# Altium footprint library HARWIN THD.PcbLib: 28 footprints (part 1 of 2)
Each footprint in its own frame and in the unit in brackets; x right, y up, seen from the top. Pads: shape width x height; smd on the part's side, far side on the other; paste and mask are expansions set on the pad; w line width, h text height; cw(c..) or ccw(c..) is an arc to the next point about the centre after c.
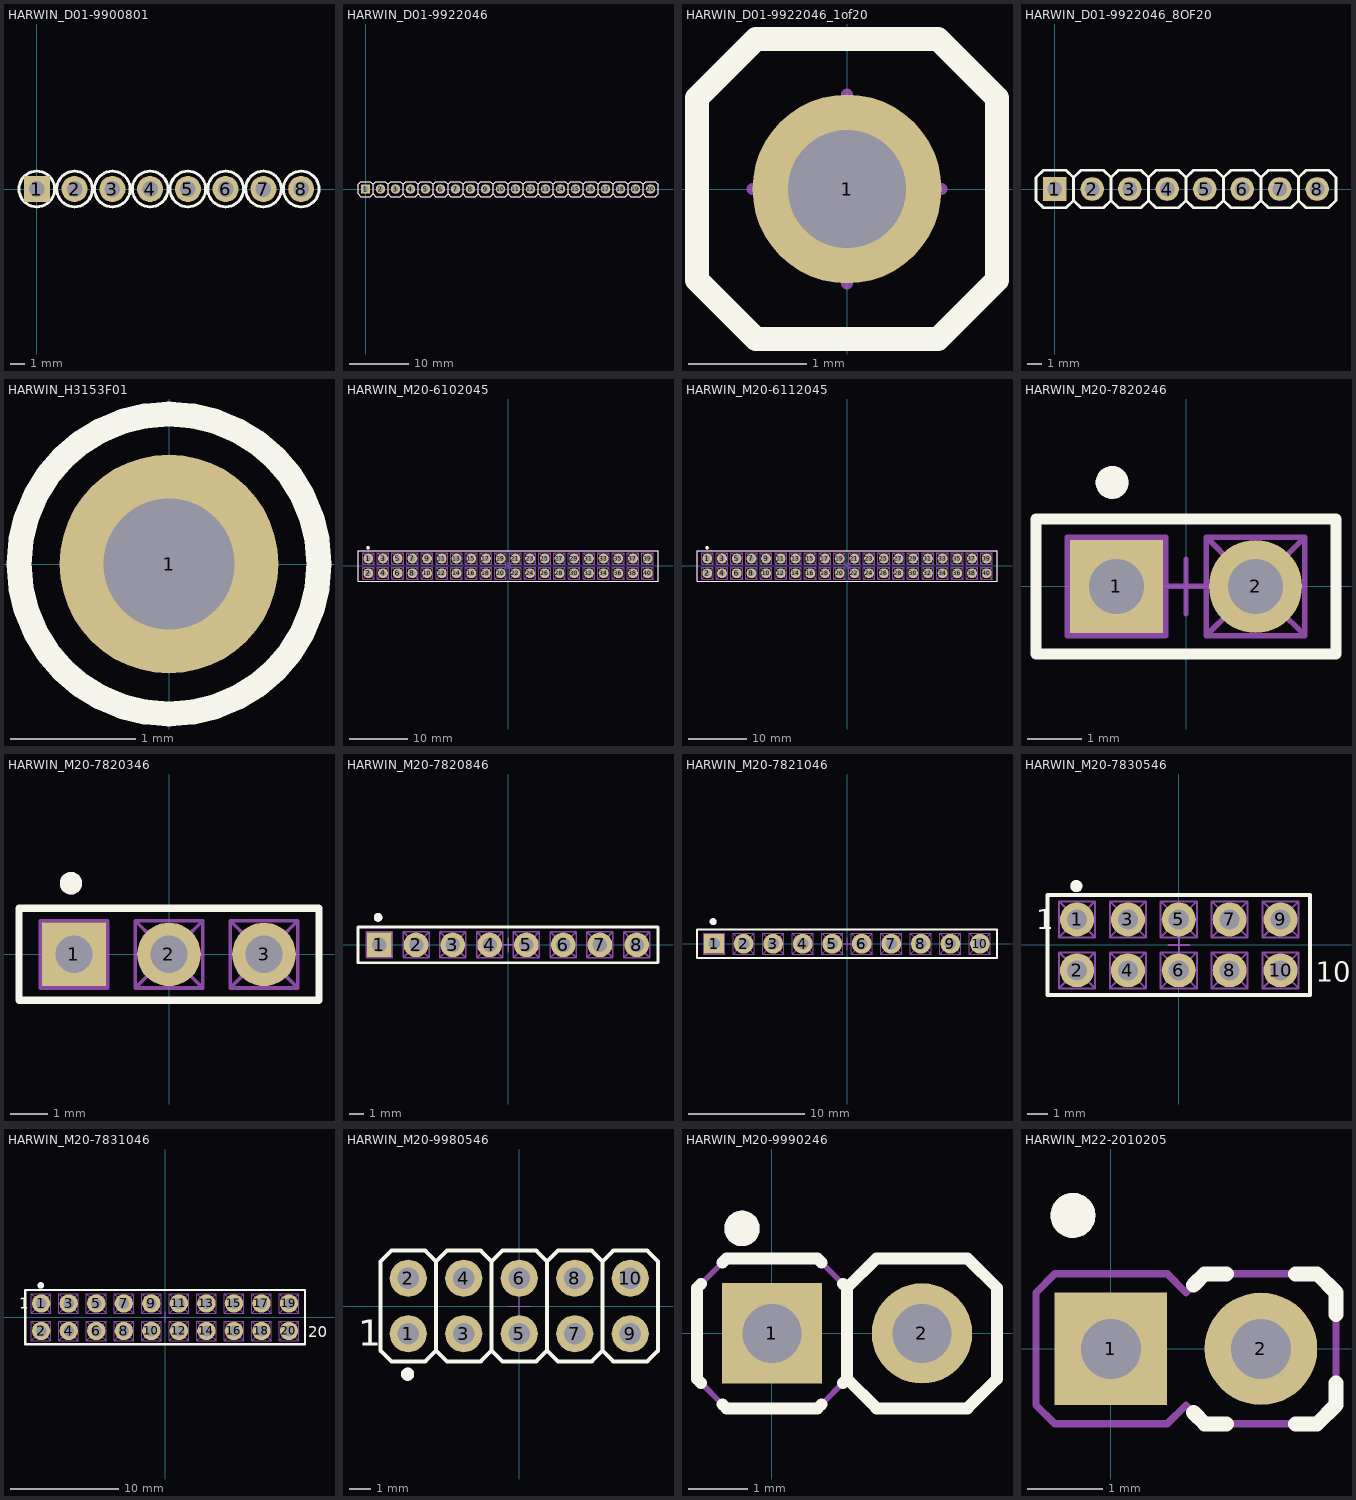
[diagram p0: the footprints below, top view; thin cyan lines are the x and y axes]

## HARWIN_D01-9900801 [mm] "Sub-miniature PC Board Socket for Ø0.5mm Pin"
height 0.43
pads (8):
  rect 1.75x1.75 hole 1.05: 1(0,0)
  round 1.75 hole 1.05: 2(2.54,0) 3(5.08,0) 4(7.62,0) 5(10.16,0) 6(12.7,0) 7(15.24,0) 8(17.78,0)
Top Overlay:
  circle w0.2: c17.78,0 r1.2
  circle w0.2: c15.24,0 r1.2
  circle w0.2: c7.62,0 r1.2
  circle w0.2: c12.7,0 r1.2
  circle w0.2: c10.16,0 r1.2
  circle w0.2: c5.08,0 r1.2
  circle w0.2: c2.54,0 r1.2
  circle w0.2: c0,0 r1.2
Mechanical 8:
  lines w0.1: -0.8,0 0,0 ; 0,-0.8 0,0 ; 0,0.8 0,0 ; 0.8,0 0,0 ; 1.74,0 2.54,0 ; 2.54,-0.8 2.54,0 ; 2.54,0.8 2.54,0 ; 3.34,0 2.54,0 ; 4.28,0 5.08,0 ; 5.08,-0.8 5.08,0 ; 5.08,0.8 5.08,0 ; 5.88,0 5.08,0 ; 6.82,0 7.62,0 ; 7.62,-0.8 7.62,0 ; 7.62,0.8 7.62,0 ; 8.42,0 7.62,0 ; 9.36,0 10.16,0 ; 10.16,-0.8 10.16,0 ; 10.16,0.8 10.16,0 ; 10.96,0 10.16,0 ; 11.9,0 12.7,0 ; 12.7,-0.8 12.7,0 ; 12.7,0.8 12.7,0 ; 13.5,0 12.7,0 ; 14.44,0 15.24,0 ; 15.24,-0.8 15.24,0 ; 15.24,0.8 15.24,0 ; 16.04,0 15.24,0 ; 16.98,0 17.78,0 ; 17.78,-0.8 17.78,0 ; 17.78,0.8 17.78,0 ; 18.58,0 17.78,0
  text "Spec Hole Tolerance" at 1.9,1.1 h1
Mechanical 14:
  circle w0.1: c17.78,0 r0.725
  circle w0.1: c15.24,0 r0.725
  circle w0.1: c7.62,0 r0.725
  circle w0.1: c12.7,0 r0.725
  circle w0.1: c10.16,0 r0.725
  circle w0.1: c5.08,0 r0.725
  circle w0.1: c2.54,0 r0.725
  circle w0.1: c0,0 r0.725
3D body "HARWIN_D01-9900801.stp": height 0.43, standoff -3.18, extent -0.725,-0.725 18.505,0.725

## HARWIN_D01-9922046 [mm] "20 Contact 2.54mm Pitch Single-In-Line Header Strip - Top Pin Ø0.46mm - Bottom Pin Ø0.69mm"
height 7.43
pads (20):
  rect 1.6x1.6 hole 1: 1(0,0)
  round 1.6 hole 1: 2(2.54,0) 3(5.08,0) 4(7.62,0) 5(10.16,0) 6(12.7,0) 7(15.24,0) 8(17.78,0) 9(20.32,0) 10(22.86,0) 11(25.4,0) 12(27.94,0) 13(30.48,0) 14(33.02,0) 15(35.56,0) 16(38.1,0) 17(40.64,0) 18(43.18,0) 19(45.72,0) 20(48.26,0)
Top Overlay:
  drawing of 160 lines, arcs and shapes, not listed
Mechanical 8:
  lines w0.1: -0.8,0 0,0 ; 0,-0.8 0,0 ; 0,0.8 0,0 ; 0.8,0 0,0 ; 1.74,0 2.54,0 ; 2.54,-0.8 2.54,0 ; 2.54,0.8 2.54,0 ; 3.34,0 2.54,0 ; 4.28,0 5.08,0 ; 5.08,-0.8 5.08,0 ; 5.08,0.8 5.08,0 ; 5.88,0 5.08,0 ; 6.82,0 7.62,0 ; 7.62,-0.8 7.62,0 ; 7.62,0.8 7.62,0 ; 8.42,0 7.62,0 ; 9.36,0 10.16,0 ; 10.16,-0.8 10.16,0 ; 10.16,0.8 10.16,0 ; 10.96,0 10.16,0 ; 11.9,0 12.7,0 ; 12.7,-0.8 12.7,0 ; 12.7,0.8 12.7,0 ; 13.5,0 12.7,0 ; 14.44,0 15.24,0 ; 15.24,-0.8 15.24,0 ; 15.24,0.8 15.24,0 ; 16.04,0 15.24,0 ; 16.98,0 17.78,0 ; 17.78,-0.8 17.78,0 ; 17.78,0.8 17.78,0 ; 18.58,0 17.78,0 ; 19.52,0 20.32,0 ; 20.32,-0.8 20.32,0 ; 20.32,0.8 20.32,0 ; 21.12,0 20.32,0 ; 22.06,0 22.86,0 ; 22.86,-0.8 22.86,0 ; 22.86,0.8 22.86,0 ; 23.66,0 22.86,0 ; 24.6,0 25.4,0 ; 25.4,-0.8 25.4,0 ; 25.4,0.8 25.4,0 ; 26.2,0 25.4,0 ; 27.14,0 27.94,0 ; 27.94,-0.8 27.94,0 ; 27.94,0.8 27.94,0 ; 28.74,0 27.94,0 ; 29.68,0 30.48,0 ; 30.48,-0.8 30.48,0 ; 30.48,0.8 30.48,0 ; 31.28,0 30.48,0 ; 32.22,0 33.02,0 ; 33.02,-0.8 33.02,0 ; 33.02,0.8 33.02,0 ; 33.82,0 33.02,0 ; 34.76,0 35.56,0 ; 35.56,-0.8 35.56,0 ; 35.56,0.8 35.56,0 ; 36.36,0 35.56,0 ; 37.3,0 38.1,0 ; 38.1,-0.8 38.1,0 ; 38.1,0.8 38.1,0 ; 38.9,0 38.1,0 ; 39.84,0 40.64,0 ; 40.64,-0.8 40.64,0 ; 40.64,0.8 40.64,0 ; 41.44,0 40.64,0 ; 42.38,0 43.18,0 ; 43.18,-0.8 43.18,0 ; 43.18,0.8 43.18,0 ; 43.98,0 43.18,0 ; 44.92,0 45.72,0 ; 45.72,-0.8 45.72,0 ; 45.72,0.8 45.72,0 ; 46.52,0 45.72,0 ; 47.46,0 48.26,0 ; 48.26,-0.8 48.26,0 ; 48.26,0.8 48.26,0 ; 49.06,0 48.26,0
Mechanical 14:
  drawing of 160 lines, arcs and shapes, not listed
3D body "HARWIN_D01-9922046.stp": height 7.43, standoff -4.3, extent -1.27,-1.27 49.53,1.27

## HARWIN_D01-9922046_1of20 [mm] "1 of 20 Contact 2.54mm Pitch Single-In-Line Header Strip - Top Pin Ø0.46mm - Bottom Pin Ø0.69mm"
height 7.43
pads (1):
  round 1.6 hole 1: 1(0,0)
Top Overlay:
  lines w0.2: -1.27,-0.77 -0.77,-1.27 0.77,-1.27 1.27,-0.77 1.27,0.77 0.77,1.27 -0.77,1.27 -1.27,0.77 -1.27,-0.77
Mechanical 8:
  lines w0.1: -0.8,0 0,0 ; 0,-0.8 0,0 ; 0,0.8 0,0 ; 0.8,0 0,0
Mechanical 14:
  lines w0.1: -1.27,-0.77 -0.77,-1.27 0.77,-1.27 1.27,-0.77 1.27,0.77 0.77,1.27 -0.77,1.27 -1.27,0.77 -1.27,-0.77
3D body "HARWIN_D01-9922046_1OF20.stp": height 7.43, standoff -4.3, extent -1.27,-1.27 1.27,1.27

## HARWIN_D01-9922046_8OF20 [mm] "8 of 20 Contact 2.54mm Pitch Single-In-Line Header Strip - Top Pin Ø0.46mm - Bottom Pin Ø0.69mm"
height 7.43
pads (8):
  rect 1.6x1.6 hole 1: 1(0,0)
  round 1.6 hole 1: 2(2.54,0) 3(5.08,0) 4(7.62,0) 5(10.16,0) 6(12.7,0) 7(15.24,0) 8(17.78,0)
Top Overlay:
  lines w0.2: 1.27,-0.77 0.77,-1.27 -0.77,-1.27 -1.27,-0.77 -1.27,0.77 -0.77,1.27 0.77,1.27 1.27,0.77 ; 1.27,-0.77 1.27,0.77 ; 1.27,-0.77 1.27,0.77 ; 1.27,-0.77 1.77,-1.27 3.31,-1.27 3.81,-0.77 ; 1.27,0.77 1.77,1.27 3.31,1.27 3.81,0.77 ; 3.81,-0.77 3.81,0.77 ; 3.81,-0.77 3.81,0.77 ; 3.81,-0.77 4.31,-1.27 5.85,-1.27 6.35,-0.77 ; 3.81,0.77 4.31,1.27 5.85,1.27 6.35,0.77 ; 6.35,-0.77 6.35,0.77 ; 6.35,-0.77 6.35,0.77 ; 6.35,-0.77 6.85,-1.27 8.39,-1.27 8.89,-0.77 ; 6.35,0.77 6.85,1.27 8.39,1.27 8.89,0.77 ; 8.89,-0.77 8.89,0.77 ; 8.89,-0.77 8.89,0.77 ; 8.89,-0.77 9.39,-1.27 10.93,-1.27 11.43,-0.77 ; 8.89,0.77 9.39,1.27 10.93,1.27 11.43,0.77 ; 11.43,-0.77 11.43,0.77 ; 11.43,-0.77 11.43,0.77 ; 11.43,-0.77 11.93,-1.27 13.47,-1.27 13.97,-0.77 ; 11.43,0.77 11.93,1.27 13.47,1.27 13.97,0.77 ; 13.97,-0.77 13.97,0.77 ; 13.97,-0.77 13.97,0.77 ; 13.97,-0.77 14.47,-1.27 16.01,-1.27 16.51,-0.77 ; 13.97,0.77 14.47,1.27 16.01,1.27 16.51,0.77 ; 16.51,-0.77 16.51,0.77 ; 16.51,-0.77 16.51,0.77 ; 16.51,-0.77 17.01,-1.27 18.55,-1.27 19.05,-0.77 19.05,0.77 18.55,1.27 17.01,1.27 16.51,0.77
Mechanical 8:
  lines w0.1: -0.8,0 0,0 ; 0,-0.8 0,0 ; 0,0.8 0,0 ; 0.8,0 0,0 ; 1.74,0 2.54,0 ; 2.54,-0.8 2.54,0 ; 2.54,0.8 2.54,0 ; 3.34,0 2.54,0 ; 4.28,0 5.08,0 ; 5.08,-0.8 5.08,0 ; 5.08,0.8 5.08,0 ; 5.88,0 5.08,0 ; 6.82,0 7.62,0 ; 7.62,-0.8 7.62,0 ; 7.62,0.8 7.62,0 ; 8.42,0 7.62,0 ; 9.36,0 10.16,0 ; 10.16,-0.8 10.16,0 ; 10.16,0.8 10.16,0 ; 10.96,0 10.16,0 ; 11.9,0 12.7,0 ; 12.7,-0.8 12.7,0 ; 12.7,0.8 12.7,0 ; 13.5,0 12.7,0 ; 14.44,0 15.24,0 ; 15.24,-0.8 15.24,0 ; 15.24,0.8 15.24,0 ; 16.04,0 15.24,0 ; 16.98,0 17.78,0 ; 17.78,-0.8 17.78,0 ; 17.78,0.8 17.78,0 ; 18.58,0 17.78,0
Mechanical 14:
  lines w0.1: 1.27,-0.77 0.77,-1.27 -0.77,-1.27 -1.27,-0.77 -1.27,0.77 -0.77,1.27 0.77,1.27 1.27,0.77 ; 1.27,-0.77 1.27,0.77 ; 1.27,-0.77 1.27,0.77 ; 1.27,-0.77 1.77,-1.27 3.31,-1.27 3.81,-0.77 ; 1.27,0.77 1.77,1.27 3.31,1.27 3.81,0.77 ; 3.81,-0.77 3.81,0.77 ; 3.81,-0.77 3.81,0.77 ; 3.81,-0.77 4.31,-1.27 5.85,-1.27 6.35,-0.77 ; 3.81,0.77 4.31,1.27 5.85,1.27 6.35,0.77 ; 6.35,-0.77 6.35,0.77 ; 6.35,-0.77 6.35,0.77 ; 6.35,-0.77 6.85,-1.27 8.39,-1.27 8.89,-0.77 ; 6.35,0.77 6.85,1.27 8.39,1.27 8.89,0.77 ; 8.89,-0.77 8.89,0.77 ; 8.89,-0.77 8.89,0.77 ; 8.89,-0.77 9.39,-1.27 10.93,-1.27 11.43,-0.77 ; 8.89,0.77 9.39,1.27 10.93,1.27 11.43,0.77 ; 11.43,-0.77 11.43,0.77 ; 11.43,-0.77 11.43,0.77 ; 11.43,-0.77 11.93,-1.27 13.47,-1.27 13.97,-0.77 ; 11.43,0.77 11.93,1.27 13.47,1.27 13.97,0.77 ; 13.97,-0.77 13.97,0.77 ; 13.97,-0.77 13.97,0.77 ; 13.97,-0.77 14.47,-1.27 16.01,-1.27 16.51,-0.77 ; 13.97,0.77 14.47,1.27 16.01,1.27 16.51,0.77 ; 16.51,-0.77 16.51,0.77 ; 16.51,-0.77 16.51,0.77 ; 16.51,-0.77 17.01,-1.27 18.55,-1.27 19.05,-0.77 19.05,0.77 18.55,1.27 17.01,1.27 16.51,0.77
3D body "HARWIN_D01-9922046_8OF20.stp": height 7.43, standoff -4.3, extent -1.27,-1.27 19.05,1.27

## HARWIN_H3153F01 [mm] "Single Sub-Miniature PC Board Socket for Ø0.5mm Pin"
height 0.43
pads (1):
  round 1.75 hole 1.05: 1(0,0)
Top Overlay:
  circle w0.2: c0,0 r1.2
Mechanical 8:
  lines w0.1: -0.8,0 0,0 ; 0,-0.8 0,0 ; 0,0.8 0,0 ; 0.8,0 0,0
  text "Spec Hole Tolerance" at -6.5,1.3 h1
Mechanical 14:
  circle w0.1: c0,0 r0.725
3D body "HARWIN_H3153F01.stp": height 0.43, standoff -3.18, extent -0.725,-0.725 0.725,0.725

## HARWIN_M20-6102045 [mm] "40 Ways, Dual Row, 2.54mm Pitch, PC/104 Stackthrough Connector"
height 11.05
pads (40):
  round 1.7 hole 1: 1(-24.13,1.27) 2(-24.13,-1.27) 3(-21.59,1.27) 4(-21.59,-1.27) 5(-19.05,1.27) 6(-19.05,-1.27) 7(-16.51,1.27) 8(-16.51,-1.27) 9(-13.97,1.27) 10(-13.97,-1.27) 11(-11.43,1.27) 12(-11.43,-1.27) 13(-8.89,1.27) 14(-8.89,-1.27) 15(-6.35,1.27) 16(-6.35,-1.27) 17(-3.81,1.27) 18(-3.81,-1.27) 19(-1.27,1.27) 20(-1.27,-1.27) 21(1.27,1.27) 22(1.27,-1.27) 23(3.81,1.27) 24(3.81,-1.27) 25(6.35,1.27) 26(6.35,-1.27) 27(8.89,1.27) 28(8.89,-1.27) 29(11.43,1.27) 30(11.43,-1.27) 31(13.97,1.27) 32(13.97,-1.27) 33(16.51,1.27) 34(16.51,-1.27) 35(19.05,1.27) 36(19.05,-1.27) 37(21.59,1.27) 38(21.59,-1.27) 39(24.13,1.27) 40(24.13,-1.27)
Top Overlay:
  circle w0.3: c-24.175,3.125 r0.15
  lines w0.2: -25.91,-2.625 25.91,-2.625 25.91,2.625 -25.91,2.625 -25.91,-2.625
Mechanical 8:
  drawing of 164 lines, arcs and shapes, not listed
Mechanical 14:
  drawing of 485 lines, arcs and shapes, not listed
3D body "HARWIN_M20-6102045.stp": height 11.05, standoff -12.2, extent -25.91,-2.625 25.91,2.625

## HARWIN_M20-6112045 [mm] "40 Ways, Dual Row, 2.54mm Pitch, PC/104 Non-Stackthrough Connector"
height 11.05
pads (40):
  round 1.7 hole 1: 1(-24.13,1.27) 2(-24.13,-1.27) 3(-21.59,1.27) 4(-21.59,-1.27) 5(-19.05,1.27) 6(-19.05,-1.27) 7(-16.51,1.27) 8(-16.51,-1.27) 9(-13.97,1.27) 10(-13.97,-1.27) 11(-11.43,1.27) 12(-11.43,-1.27) 13(-8.89,1.27) 14(-8.89,-1.27) 15(-6.35,1.27) 16(-6.35,-1.27) 17(-3.81,1.27) 18(-3.81,-1.27) 19(-1.27,1.27) 20(-1.27,-1.27) 21(1.27,1.27) 22(1.27,-1.27) 23(3.81,1.27) 24(3.81,-1.27) 25(6.35,1.27) 26(6.35,-1.27) 27(8.89,1.27) 28(8.89,-1.27) 29(11.43,1.27) 30(11.43,-1.27) 31(13.97,1.27) 32(13.97,-1.27) 33(16.51,1.27) 34(16.51,-1.27) 35(19.05,1.27) 36(19.05,-1.27) 37(21.59,1.27) 38(21.59,-1.27) 39(24.13,1.27) 40(24.13,-1.27)
Top Overlay:
  circle w0.3: c-24.175,3.125 r0.15
  lines w0.2: -25.91,-2.625 25.91,-2.625 25.91,2.625 -25.91,2.625 -25.91,-2.625
Mechanical 8:
  drawing of 164 lines, arcs and shapes, not listed
Mechanical 14:
  drawing of 485 lines, arcs and shapes, not listed
3D body "HARWIN_M20-6112045.stp": height 11.05, standoff -2.29, extent -25.91,-2.625 25.91,2.625

## HARWIN_M20-7820246 [mm] "2 Contacts, Pitch 2.54mm - Top Entry, Single Row, Through Mount Socket"
height 8.5
pads (2):
  rect 1.7x1.7 hole 1: 1(-1.27,0)
  round 1.7 hole 1: 2(1.27,0)
Top Overlay:
  circle w0.3: c-1.35,1.9 r0.15
  lines w0.2: 2.74,-1.23 -2.74,-1.23 -2.74,1.23 2.74,1.23 2.74,-1.225
Mechanical 8:
  lines w0.1: -1.77,0 -1.27,0 ; -1.27,-0.5 -1.27,0 ; -1.27,0.5 -1.27,0 ; -0.77,0 -1.27,0 ; -0.5,0 0,0 ; 0,-0.5 0,0 ; 0,0.5 0,0 ; 0.5,0 0,0 ; 0.77,0 1.27,0 ; 1.27,-0.5 1.27,0 ; 1.27,0.5 1.27,0 ; 1.77,0 1.27,0
Mechanical 14:
  circle w0.3: c-1.35,1.9 r0.15
  lines w0.1: -2.74,1.23 2.74,1.23 2.74,-1.225 ; -2.74,1.25 -2.74,-1.23 2.74,-1.23 ; -1.67,0.397 -2.17,0.9 ; 0.87,0.397 0.37,0.9 ; -2.17,-0.9 -1.67,-0.4 ; -2.17,-0.9 -0.37,-0.9 ; -2.17,-0.9 -2.17,0.9 ; -2.17,0.9 -0.37,0.9 ; -1.67,-0.4 -1.67,0.4 -0.87,0.4 ; -1.67,-0.4 -0.87,-0.4 ; -0.87,-0.4 -0.87,0.4 ; -0.87,-0.4 -0.37,-0.9 ; -0.87,0.4 -0.37,0.9 ; -0.37,-0.9 -0.37,0.9 ; 0.37,-0.9 0.87,-0.4 ; 0.37,-0.9 2.17,-0.9 ; 0.37,-0.9 0.37,0.9 ; 0.37,0.9 2.17,0.9 ; 0.87,-0.4 0.87,0.4 1.67,0.4 ; 0.87,-0.4 1.67,-0.4 ; 1.67,-0.4 1.67,0.4 ; 1.67,-0.4 2.17,-0.9 ; 1.67,0.4 2.17,0.9 ; 2.17,-0.9 2.17,0.9
3D body "HARWIN_M20-7820246.stp": height 8.5, standoff -3, extent -2.74,-1.25 2.74,1.25

## HARWIN_M20-7820346 [mm] "3 Contacts, Pitch 2.54mm - Top Entry, Single Row, Through Mount Socket"
height 8.5
pads (3):
  rect 1.7x1.7 hole 1: 1(-2.54,0)
  round 1.7 hole 1: 2(0,0) 3(2.54,0)
Top Overlay:
  circle w0.3: c-2.62,1.9 r0.15
  lines w0.2: 4.01,-1.23 -4.01,-1.23 -4.01,1.23 4.01,1.23 4.01,-1.225
Mechanical 8:
  lines w0.1: -3.04,0 -2.54,0 ; -2.54,-0.5 -2.54,0 ; -2.54,0.5 -2.54,0 ; -2.04,0 -2.54,0 ; 0,0 0,0.5 0,0 ; 0,0 0.5,0 0,0 ; 0,0 0,-0.5 0,0 ; 0,0 -0.5,0 0,0 ; 2.54,0 2.04,0 2.54,0 ; 2.54,0 2.54,-0.5 2.54,0 ; 2.54,0 3.04,0 2.54,0 ; 2.54,0 2.54,0.5 2.54,0
Mechanical 14:
  circle w0.3: c-2.62,1.9 r0.15
  lines w0.1: -4.01,1.23 4.01,1.23 4.01,-1.225 ; -4.01,1.25 -4.01,-1.23 4.01,-1.23 ; -2.94,0.397 -3.44,0.9 ; -0.4,0.397 -0.9,0.9 ; 2.14,0.397 1.64,0.9 ; -3.44,-0.9 -3.44,0.9 ; -3.44,-0.9 -1.64,-0.9 ; -3.44,-0.9 -2.94,-0.4 ; -3.44,0.9 -1.64,0.9 ; -2.94,-0.4 -2.14,-0.4 ; -2.94,-0.4 -2.94,0.4 -2.14,0.4 ; -2.14,-0.4 -1.64,-0.9 ; -2.14,-0.4 -2.14,0.4 ; -2.14,0.4 -1.64,0.9 ; -1.64,-0.9 -1.64,0.9 ; -0.9,-0.9 -0.9,0.9 ; -0.9,-0.9 0.9,-0.9 ; -0.9,-0.9 -0.4,-0.4 ; -0.9,0.9 0.9,0.9 ; -0.4,-0.4 0.4,-0.4 ; -0.4,-0.4 -0.4,0.4 0.4,0.4 ; 0.4,-0.4 0.9,-0.9 ; 0.4,-0.4 0.4,0.4 ; 0.4,0.4 0.9,0.9 ; 0.9,-0.9 0.9,0.9 ; 1.64,-0.9 2.14,-0.4 ; 1.64,-0.9 3.44,-0.9 ; 1.64,-0.9 1.64,0.9 ; 1.64,0.9 3.44,0.9 ; 2.14,-0.4 2.14,0.4 2.94,0.4 ; 2.14,-0.4 2.94,-0.4 ; 2.94,-0.4 2.94,0.4 ; 2.94,-0.4 3.44,-0.9 ; 2.94,0.4 3.44,0.9 ; 3.44,-0.9 3.44,0.9
3D body "HARWIN_M20-7820346.stp": height 8.5, standoff -3, extent -4.01,-1.25 4.01,1.25

## HARWIN_M20-7820846 [mm] "8 Contacts, Pitch 2.54mm - Top Entry, Single Row, Through Mount Socket"
height 8.5
pads (8):
  rect 1.7x1.7 hole 1: 1(-8.89,0)
  round 1.7 hole 1: 2(-6.35,0) 3(-3.81,0) 4(-1.27,0) 5(1.27,0) 6(3.81,0) 7(6.35,0) 8(8.89,0)
Top Overlay:
  circle w0.3: c-8.97,1.9 r0.15
  lines w0.2: -10.36,-1.232 10.36,-1.225 10.36,1.23 -10.36,1.23 -10.36,-1.23
Mechanical 8:
  lines w0.1: -9.39,0 -8.89,0 ; -8.89,-0.5 -8.89,0 ; -8.89,0.5 -8.89,0 ; -8.39,0 -8.89,0 ; -6.85,0 -6.35,0 ; -6.35,-0.5 -6.35,0 ; -6.35,0.5 -6.35,0 ; -5.85,0 -6.35,0 ; -0.5,0 0,0 ; 0,-0.5 0,0 ; 0,0.5 0,0 ; 0.5,0 0,0 ; -3.81,0 -4.31,0 -3.81,0 ; -3.81,0 -3.81,-0.5 -3.81,0 ; -3.81,0 -3.31,0 -3.81,0 ; -3.81,0 -3.81,0.5 -3.81,0 ; -1.27,0 -1.27,0.5 -1.27,0 ; -1.27,0 -0.77,0 -1.27,0 ; -1.27,0 -1.27,-0.5 -1.27,0 ; -1.27,0 -1.77,0 -1.27,0 ; 1.27,0 1.27,0.5 1.27,0 ; 1.27,0 1.77,0 1.27,0 ; 1.27,0 1.27,-0.5 1.27,0 ; 1.27,0 0.77,0 1.27,0 ; 3.81,0 3.31,0 3.81,0 ; 3.81,0 3.81,-0.5 3.81,0 ; 3.81,0 4.31,0 3.81,0 ; 3.81,0 3.81,0.5 3.81,0 ; 6.35,0 6.35,0.5 6.35,0 ; 6.35,0 6.85,0 6.35,0 ; 6.35,0 6.35,-0.5 6.35,0 ; 6.35,0 5.85,0 6.35,0 ; 8.89,0 8.39,0 8.89,0 ; 8.89,0 8.89,-0.5 8.89,0 ; 8.89,0 9.39,0 8.89,0 ; 8.89,0 8.89,0.5 8.89,0
Mechanical 14:
  circle w0.3: c-8.97,1.9 r0.15
  lines w0.1: -10.36,-1.232 10.36,-1.225 10.36,1.23 -10.36,1.23 ; -10.36,-1.23 -10.36,1.25 ; -9.29,0.397 -9.79,0.9 ; -6.75,0.397 -7.25,0.9 ; -4.21,0.397 -4.71,0.9 ; -1.67,0.397 -2.17,0.9 ; 0.87,0.397 0.37,0.9 ; 3.41,0.397 2.91,0.9 ; 5.95,0.397 5.45,0.9 ; 8.49,0.397 7.99,0.9 ; -9.79,-0.9 -9.79,0.9 ; -9.79,-0.9 -7.99,-0.9 ; -9.79,-0.9 -9.29,-0.4 ; -9.79,0.9 -7.99,0.9 ; -9.29,-0.4 -8.49,-0.4 ; -9.29,-0.4 -9.29,0.4 -8.49,0.4 ; -8.49,-0.4 -7.99,-0.9 ; -8.49,-0.4 -8.49,0.4 ; -8.49,0.4 -7.99,0.9 ; -7.99,-0.9 -7.99,0.9 ; -7.25,-0.9 -6.75,-0.4 ; -7.25,-0.9 -5.45,-0.9 ; -7.25,-0.9 -7.25,0.9 ; -7.25,0.9 -5.45,0.9 ; -6.75,-0.4 -6.75,0.4 -5.95,0.4 ; -6.75,-0.4 -5.95,-0.4 ; -5.95,-0.4 -5.95,0.4 ; -5.95,-0.4 -5.45,-0.9 ; -5.95,0.4 -5.45,0.9 ; -5.45,-0.9 -5.45,0.9 ; -4.71,-0.9 -4.21,-0.4 ; -4.71,-0.9 -2.91,-0.9 ; -4.71,-0.9 -4.71,0.9 ; -4.71,0.9 -2.91,0.9 ; -4.21,-0.4 -4.21,0.4 -3.41,0.4 ; -4.21,-0.4 -3.41,-0.4 ; -3.41,-0.4 -3.41,0.4 ; -3.41,-0.4 -2.91,-0.9 ; -3.41,0.4 -2.91,0.9 ; -2.91,-0.9 -2.91,0.9 ; -2.17,-0.9 -2.17,0.9 ; -2.17,-0.9 -0.37,-0.9 ; -2.17,-0.9 -1.67,-0.4 ; -2.17,0.9 -0.37,0.9 ; -1.67,-0.4 -0.87,-0.4 ; -1.67,-0.4 -1.67,0.4 -0.87,0.4 ; -0.87,-0.4 -0.37,-0.9 ; -0.87,-0.4 -0.87,0.4 ; -0.87,0.4 -0.37,0.9 ; -0.37,-0.9 -0.37,0.9 ; 0.37,-0.9 0.37,0.9 ; 0.37,-0.9 2.17,-0.9 ; 0.37,-0.9 0.87,-0.4 ; 0.37,0.9 2.17,0.9 ; 0.87,-0.4 1.67,-0.4 ; 0.87,-0.4 0.87,0.4 1.67,0.4 ; 1.67,-0.4 2.17,-0.9 ; 1.67,-0.4 1.67,0.4 ; 1.67,0.4 2.17,0.9 ; 2.17,-0.9 2.17,0.9 ; 2.91,-0.9 3.41,-0.4 ; 2.91,-0.9 4.71,-0.9 ; 2.91,-0.9 2.91,0.9 ; 2.91,0.9 4.71,0.9 ; 3.41,-0.4 3.41,0.4 4.21,0.4 ; 3.41,-0.4 4.21,-0.4 ; 4.21,-0.4 4.21,0.4 ; 4.21,-0.4 4.71,-0.9 ; 4.21,0.4 4.71,0.9 ; 4.71,-0.9 4.71,0.9 ; 5.45,-0.9 5.45,0.9 ; 5.45,-0.9 7.25,-0.9 ; 5.45,-0.9 5.95,-0.4 ; 5.45,0.9 7.25,0.9 ; 5.95,-0.4 6.75,-0.4 ; 5.95,-0.4 5.95,0.4 6.75,0.4 ; 6.75,-0.4 7.25,-0.9 ; 6.75,-0.4 6.75,0.4 ; 6.75,0.4 7.25,0.9 ; 7.25,-0.9 7.25,0.9 ; 7.99,-0.9 8.49,-0.4 ; 7.99,-0.9 9.79,-0.9 ; 7.99,-0.9 7.99,0.9 ; 7.99,0.9 9.79,0.9 ; 8.49,-0.4 8.49,0.4 9.29,0.4 ; 8.49,-0.4 9.29,-0.4 ; 9.29,-0.4 9.29,0.4 ; 9.29,-0.4 9.79,-0.9 ; 9.29,0.4 9.79,0.9 ; 9.79,-0.9 9.79,0.9
3D body "HARWIN_M20-7820846.stp": height 8.5, standoff -3, extent -10.36,-1.25 10.36,1.25

## HARWIN_M20-7821046 [mm] "10 Contacts, Pitch 2.54mm - Top Entry, Single Row, Through Mount Socket"
height 8.5
pads (10):
  rect 1.7x1.7 hole 1: 1(-11.43,0)
  round 1.7 hole 1: 2(-8.89,0) 3(-6.35,0) 4(-3.81,0) 5(-1.27,0) 6(1.27,0) 7(3.81,0) 8(6.35,0) 9(8.89,0) 10(11.43,0)
Top Overlay:
  circle w0.3: c-11.51,1.9 r0.15
  lines w0.2: -12.9,-1.232 12.9,-1.223 ; -12.9,-1.23 -12.9,1.23 12.9,1.23 12.9,-1.225
Mechanical 8:
  lines w0.1: -11.93,0 -11.43,0 ; -11.43,-0.5 -11.43,0 ; -11.43,0.5 -11.43,0 ; -10.93,0 -11.43,0 ; -9.39,0 -8.89,0 ; -8.89,-0.5 -8.89,0 ; -8.89,0.5 -8.89,0 ; -8.39,0 -8.89,0 ; -0.5,0 0,0 ; 0,-0.5 0,0 ; 0,0.5 0,0 ; 0.5,0 0,0 ; -6.35,0 -6.35,0.5 -6.35,0 ; -6.35,0 -5.85,0 -6.35,0 ; -6.35,0 -6.35,-0.5 -6.35,0 ; -6.35,0 -6.85,0 -6.35,0 ; -3.81,0 -4.31,0 -3.81,0 ; -3.81,0 -3.81,-0.5 -3.81,0 ; -3.81,0 -3.31,0 -3.81,0 ; -3.81,0 -3.81,0.5 -3.81,0 ; -1.27,0 -1.77,0 -1.27,0 ; -1.27,0 -1.27,-0.5 -1.27,0 ; -1.27,0 -0.77,0 -1.27,0 ; -1.27,0 -1.27,0.5 -1.27,0 ; 1.27,0 1.27,0.5 1.27,0 ; 1.27,0 1.77,0 1.27,0 ; 1.27,0 1.27,-0.5 1.27,0 ; 1.27,0 0.77,0 1.27,0 ; 3.81,0 3.31,0 3.81,0 ; 3.81,0 3.81,-0.5 3.81,0 ; 3.81,0 4.31,0 3.81,0 ; 3.81,0 3.81,0.5 3.81,0 ; 6.35,0 6.35,0.5 6.35,0 ; 6.35,0 6.85,0 6.35,0 ; 6.35,0 6.35,-0.5 6.35,0 ; 6.35,0 5.85,0 6.35,0 ; 8.89,0 8.89,0.5 8.89,0 ; 8.89,0 9.39,0 8.89,0 ; 8.89,0 8.89,-0.5 8.89,0 ; 8.89,0 8.39,0 8.89,0 ; 11.43,0 10.93,0 11.43,0 ; 11.43,0 11.43,-0.5 11.43,0 ; 11.43,0 11.93,0 11.43,0 ; 11.43,0 11.43,0.5 11.43,0
Mechanical 14:
  circle w0.3: c-11.51,1.9 r0.15
  lines w0.1: -12.9,-1.232 12.9,-1.223 ; -12.9,-1.23 -12.9,1.25 ; -12.9,1.23 12.9,1.23 12.9,-1.225 ; -11.83,0.397 -12.33,0.9 ; -9.29,0.397 -9.79,0.9 ; -6.75,0.397 -7.25,0.9 ; -4.21,0.397 -4.71,0.9 ; -1.67,0.397 -2.17,0.9 ; 0.87,0.397 0.37,0.9 ; 3.41,0.397 2.91,0.9 ; 5.95,0.397 5.45,0.9 ; 8.49,0.397 7.99,0.9 ; 11.03,0.397 10.53,0.9 ; -12.33,-0.9 -11.83,-0.4 ; -12.33,-0.9 -10.53,-0.9 ; -12.33,-0.9 -12.33,0.9 ; -12.33,0.9 -10.53,0.9 ; -11.83,-0.4 -11.83,0.4 -11.03,0.4 ; -11.83,-0.4 -11.03,-0.4 ; -11.03,-0.4 -11.03,0.4 ; -11.03,-0.4 -10.53,-0.9 ; -11.03,0.4 -10.53,0.9 ; -10.53,-0.9 -10.53,0.9 ; -9.79,-0.9 -9.79,0.9 ; -9.79,-0.9 -7.99,-0.9 ; -9.79,-0.9 -9.29,-0.4 ; -9.79,0.9 -7.99,0.9 ; -9.29,-0.4 -8.49,-0.4 ; -9.29,-0.4 -9.29,0.4 -8.49,0.4 ; -8.49,-0.4 -7.99,-0.9 ; -8.49,-0.4 -8.49,0.4 ; -8.49,0.4 -7.99,0.9 ; -7.99,-0.9 -7.99,0.9 ; -7.25,-0.9 -7.25,0.9 ; -7.25,-0.9 -5.45,-0.9 ; -7.25,-0.9 -6.75,-0.4 ; -7.25,0.9 -5.45,0.9 ; -6.75,-0.4 -5.95,-0.4 ; -6.75,-0.4 -6.75,0.4 -5.95,0.4 ; -5.95,-0.4 -5.45,-0.9 ; -5.95,-0.4 -5.95,0.4 ; -5.95,0.4 -5.45,0.9 ; -5.45,-0.9 -5.45,0.9 ; -4.71,-0.9 -4.21,-0.4 ; -4.71,-0.9 -2.91,-0.9 ; -4.71,-0.9 -4.71,0.9 ; -4.71,0.9 -2.91,0.9 ; -4.21,-0.4 -4.21,0.4 -3.41,0.4 ; -4.21,-0.4 -3.41,-0.4 ; -3.41,-0.4 -3.41,0.4 ; -3.41,-0.4 -2.91,-0.9 ; -3.41,0.4 -2.91,0.9 ; -2.91,-0.9 -2.91,0.9 ; -2.17,-0.9 -1.67,-0.4 ; -2.17,-0.9 -0.37,-0.9 ; -2.17,-0.9 -2.17,0.9 ; -2.17,0.9 -0.37,0.9 ; -1.67,-0.4 -1.67,0.4 -0.87,0.4 ; -1.67,-0.4 -0.87,-0.4 ; -0.87,-0.4 -0.87,0.4 ; -0.87,-0.4 -0.37,-0.9 ; -0.87,0.4 -0.37,0.9 ; -0.37,-0.9 -0.37,0.9 ; 0.37,-0.9 0.37,0.9 ; 0.37,-0.9 2.17,-0.9 ; 0.37,-0.9 0.87,-0.4 ; 0.37,0.9 2.17,0.9 ; 0.87,-0.4 1.67,-0.4 ; 0.87,-0.4 0.87,0.4 1.67,0.4 ; 1.67,-0.4 2.17,-0.9 ; 1.67,-0.4 1.67,0.4 ; 1.67,0.4 2.17,0.9 ; 2.17,-0.9 2.17,0.9 ; 2.91,-0.9 3.41,-0.4 ; 2.91,-0.9 4.71,-0.9 ; 2.91,-0.9 2.91,0.9 ; 2.91,0.9 4.71,0.9 ; 3.41,-0.4 3.41,0.4 4.21,0.4 ; 3.41,-0.4 4.21,-0.4 ; 4.21,-0.4 4.21,0.4 ; 4.21,-0.4 4.71,-0.9 ; 4.21,0.4 4.71,0.9 ; 4.71,-0.9 4.71,0.9 ; 5.45,-0.9 5.45,0.9 ; 5.45,-0.9 7.25,-0.9 ; 5.45,-0.9 5.95,-0.4 ; 5.45,0.9 7.25,0.9 ; 5.95,-0.4 6.75,-0.4 ; 5.95,-0.4 5.95,0.4 6.75,0.4 ; 6.75,-0.4 7.25,-0.9 ; 6.75,-0.4 6.75,0.4 ; 6.75,0.4 7.25,0.9 ; 7.25,-0.9 7.25,0.9 ; 7.99,-0.9 7.99,0.9 ; 7.99,-0.9 9.79,-0.9 ; 7.99,-0.9 8.49,-0.4 ; 7.99,0.9 9.79,0.9 ; 8.49,-0.4 9.29,-0.4 ; 8.49,-0.4 8.49,0.4 9.29,0.4 ; 9.29,-0.4 9.79,-0.9 ; 9.29,-0.4 9.29,0.4 ; 9.29,0.4 9.79,0.9 ; 9.79,-0.9 9.79,0.9 ; 10.53,-0.9 11.03,-0.4 ; 10.53,-0.9 12.33,-0.9 ; 10.53,-0.9 10.53,0.9 ; 10.53,0.9 12.33,0.9 ; 11.03,-0.4 11.03,0.4 11.83,0.4 ; 11.03,-0.4 11.83,-0.4 ; 11.83,-0.4 11.83,0.4 ; 11.83,-0.4 12.33,-0.9 ; 11.83,0.4 12.33,0.9 ; 12.33,-0.9 12.33,0.9
3D body "HARWIN_M20-7821046.stp": height 8.5, standoff -3, extent -12.9,-1.25 12.9,1.25

## HARWIN_M20-7830546 [mm] "10 Contacts, Pitch 2.54mm - Top Entry, Dual Row, Through Mount Socket"
height 8.5
pads (10):
  round 1.7 hole 1: 1(-5.08,1.27) 2(-5.08,-1.27) 3(-2.54,1.27) 4(-2.54,-1.27) 5(0,1.27) 6(0,-1.27) 7(2.54,1.27) 8(2.54,-1.27) 9(5.08,1.27) 10(5.08,-1.27)
Top Overlay:
  circle w0.3: c-5.115,2.935 r0.15
  lines w0.2: -6.55,-2.5 6.55,-2.5 6.55,2.5 -6.55,2.5 -6.55,-2.5
  text "1" at -7.127,0.772 h1
  text "10" at 6.85,-1.85 h1
Mechanical 8:
  lines w0.1: -5.58,-1.27 -5.08,-1.27 ; -5.58,1.27 -5.08,1.27 ; -5.08,-1.77 -5.08,-1.27 ; -5.08,-0.77 -5.08,-1.27 ; -5.08,0.77 -5.08,1.27 ; -5.08,1.77 -5.08,1.27 ; -4.58,-1.27 -5.08,-1.27 ; -4.58,1.27 -5.08,1.27 ; -3.04,-1.27 -2.54,-1.27 ; -3.04,1.27 -2.54,1.27 ; -2.54,-1.77 -2.54,-1.27 ; -2.54,-0.77 -2.54,-1.27 ; -2.54,0.77 -2.54,1.27 ; -2.54,1.77 -2.54,1.27 ; -2.04,-1.27 -2.54,-1.27 ; -2.04,1.27 -2.54,1.27 ; -0.5,-1.27 0,-1.27 ; -0.5,0 0,0 ; -0.5,1.27 0,1.27 ; 0,-1.77 0,-1.27 ; 0,-0.77 0,-1.27 ; 0,-0.5 0,0 ; 0,0.5 0,0 ; 0,0.77 0,1.27 ; 0,1.77 0,1.27 ; 0.5,-1.27 0,-1.27 ; 0.5,0 0,0 ; 0.5,1.27 0,1.27 ; 2.04,-1.27 2.54,-1.27 ; 2.04,1.27 2.54,1.27 ; 2.54,-1.77 2.54,-1.27 ; 2.54,-0.77 2.54,-1.27 ; 2.54,0.77 2.54,1.27 ; 2.54,1.77 2.54,1.27 ; 3.04,-1.27 2.54,-1.27 ; 3.04,1.27 2.54,1.27 ; 4.58,-1.27 5.08,-1.27 ; 4.58,1.27 5.08,1.27 ; 5.08,-1.77 5.08,-1.27 ; 5.08,-0.77 5.08,-1.27 ; 5.08,0.77 5.08,1.27 ; 5.08,1.77 5.08,1.27 ; 5.58,-1.27 5.08,-1.27 ; 5.58,1.27 5.08,1.27
Mechanical 14:
  circle w0.3: c-5.115,2.935 r0.15
  lines w0.1: -5.48,-0.873 -5.98,-0.37 ; -5.48,1.667 -5.98,2.17 ; -2.94,-0.873 -3.44,-0.37 ; -2.94,1.667 -3.44,2.17 ; -0.4,-0.873 -0.9,-0.37 ; -0.4,1.667 -0.9,2.17 ; 2.14,-0.873 1.64,-0.37 ; 2.14,1.667 1.64,2.17 ; 4.68,-0.873 4.18,-0.37 ; 4.68,1.667 4.18,2.17 ; -5.98,-2.17 -5.48,-1.67 ; -5.98,-2.17 -4.18,-2.17 ; -5.98,-2.17 -5.98,-0.37 ; -5.98,-0.37 -4.18,-0.37 ; -5.98,0.37 -5.48,0.87 ; -5.98,0.37 -4.18,0.37 ; -5.98,0.37 -5.98,2.17 ; -5.98,2.17 -4.18,2.17 ; -5.48,-1.67 -5.48,-0.87 -4.68,-0.87 ; -5.48,-1.67 -4.68,-1.67 ; -5.48,0.87 -5.48,1.67 -4.68,1.67 ; -5.48,0.87 -4.68,0.87 ; -4.68,-1.67 -4.68,-0.87 ; -4.68,-1.67 -4.18,-2.17 ; -4.68,-0.87 -4.18,-0.37 ; -4.68,0.87 -4.68,1.67 ; -4.68,0.87 -4.18,0.37 ; -4.68,1.67 -4.18,2.17 ; -4.18,-2.17 -4.18,-0.37 ; -4.18,0.37 -4.18,2.17 ; -3.44,-2.17 -2.94,-1.67 ; -3.44,-2.17 -1.64,-2.17 ; -3.44,-2.17 -3.44,-0.37 ; -3.44,-0.37 -1.64,-0.37 ; -3.44,0.37 -2.94,0.87 ; -3.44,0.37 -1.64,0.37 ; -3.44,0.37 -3.44,2.17 ; -3.44,2.17 -1.64,2.17 ; -2.94,-1.67 -2.94,-0.87 -2.14,-0.87 ; -2.94,-1.67 -2.14,-1.67 ; -2.94,0.87 -2.94,1.67 -2.14,1.67 ; -2.94,0.87 -2.14,0.87 ; -2.14,-1.67 -2.14,-0.87 ; -2.14,-1.67 -1.64,-2.17 ; -2.14,-0.87 -1.64,-0.37 ; -2.14,0.87 -2.14,1.67 ; -2.14,0.87 -1.64,0.37 ; -2.14,1.67 -1.64,2.17 ; -1.64,-2.17 -1.64,-0.37 ; -1.64,0.37 -1.64,2.17 ; -0.9,-2.17 -0.4,-1.67 ; -0.9,-2.17 0.9,-2.17 ; -0.9,-2.17 -0.9,-0.37 ; -0.9,-0.37 0.9,-0.37 ; -0.9,0.37 -0.4,0.87 ; -0.9,0.37 0.9,0.37 ; -0.9,0.37 -0.9,2.17 ; -0.9,2.17 0.9,2.17 ; -0.4,-1.67 -0.4,-0.87 0.4,-0.87 ; -0.4,-1.67 0.4,-1.67 ; -0.4,0.87 -0.4,1.67 0.4,1.67 ; -0.4,0.87 0.4,0.87 ; 0.4,-1.67 0.4,-0.87 ; 0.4,-1.67 0.9,-2.17 ; 0.4,-0.87 0.9,-0.37 ; 0.4,0.87 0.4,1.67 ; 0.4,0.87 0.9,0.37 ; 0.4,1.67 0.9,2.17 ; 0.9,-2.17 0.9,-0.37 ; 0.9,0.37 0.9,2.17 ; 1.64,-2.17 2.14,-1.67 ; 1.64,-2.17 3.44,-2.17 ; 1.64,-2.17 1.64,-0.37 ; 1.64,-0.37 3.44,-0.37 ; 1.64,0.37 2.14,0.87 ; 1.64,0.37 3.44,0.37 ; 1.64,0.37 1.64,2.17 ; 1.64,2.17 3.44,2.17 ; 2.14,-1.67 2.14,-0.87 2.94,-0.87 ; 2.14,-1.67 2.94,-1.67 ; 2.14,0.87 2.14,1.67 2.94,1.67 ; 2.14,0.87 2.94,0.87 ; 2.94,-1.67 2.94,-0.87 ; 2.94,-1.67 3.44,-2.17 ; 2.94,-0.87 3.44,-0.37 ; 2.94,0.87 2.94,1.67 ; 2.94,0.87 3.44,0.37 ; 2.94,1.67 3.44,2.17 ; 3.44,-2.17 3.44,-0.37 ; 3.44,0.37 3.44,2.17 ; 4.18,-2.17 4.68,-1.67 ; 4.18,-2.17 5.98,-2.17 ; 4.18,-2.17 4.18,-0.37 ; 4.18,-0.37 5.98,-0.37 ; 4.18,0.37 4.68,0.87 ; 4.18,0.37 5.98,0.37 ; 4.18,0.37 4.18,2.17 ; 4.18,2.17 5.98,2.17 ; 4.68,-1.67 4.68,-0.87 5.48,-0.87 ; 4.68,-1.67 5.48,-1.67 ; 4.68,0.87 4.68,1.67 5.48,1.67 ; 4.68,0.87 5.48,0.87 ; 5.48,-1.67 5.48,-0.87 ; 5.48,-1.67 5.98,-2.17 ; 5.48,-0.87 5.98,-0.37 ; 5.48,0.87 5.48,1.67 ; 5.48,0.87 5.98,0.37 ; 5.48,1.67 5.98,2.17 ; 5.98,-2.17 5.98,-0.37 ; 5.98,0.37 5.98,2.17 ; -6.55,-2.5 6.55,-2.5 6.55,2.5 -6.55,2.5 -6.55,-2.5
  text "1" at -7.127,0.772 h1
  text "10" at 6.85,-1.85 h1
3D body "HARWIN_M20-7830546.stp": height 8.5, standoff -3, extent -6.55,-2.5 6.55,2.5

## HARWIN_M20-7831046 [mm] "20 Contacts, Pitch 2.54mm - Top Entry, Dual Row, Through Mount Socket"
height 8.5
pads (20):
  round 1.7 hole 1: 1(-11.43,1.27) 2(-11.43,-1.27) 3(-8.89,1.27) 4(-8.89,-1.27) 5(-6.35,1.27) 6(-6.35,-1.27) 7(-3.81,1.27) 8(-3.81,-1.27) 9(-1.27,1.27) 10(-1.27,-1.27) 11(1.27,1.27) 12(1.27,-1.27) 13(3.81,1.27) 14(3.81,-1.27) 15(6.35,1.27) 16(6.35,-1.27) 17(8.89,1.27) 18(8.89,-1.27) 19(11.43,1.27) 20(11.43,-1.27)
Top Overlay:
  circle w0.3: c-11.465,2.935 r0.15
  lines w0.2: -12.9,-2.5 -12.9,2.5 12.9,2.5 12.9,-2.5 -12.9,-2.5
  text "20" at 13.2,-1.85 h1
  text "1" at -13.477,0.772 h1
Mechanical 8:
  lines w0.1: -11.93,-1.27 -11.43,-1.27 ; -11.93,1.27 -11.43,1.27 ; -11.43,-1.77 -11.43,-1.27 ; -11.43,-0.77 -11.43,-1.27 ; -11.43,0.77 -11.43,1.27 ; -11.43,1.77 -11.43,1.27 ; -10.93,-1.27 -11.43,-1.27 ; -10.93,1.27 -11.43,1.27 ; -9.39,-1.27 -8.89,-1.27 ; -9.39,1.27 -8.89,1.27 ; -8.89,-1.77 -8.89,-1.27 ; -8.89,-0.77 -8.89,-1.27 ; -8.89,0.77 -8.89,1.27 ; -8.89,1.77 -8.89,1.27 ; -8.39,-1.27 -8.89,-1.27 ; -8.39,1.27 -8.89,1.27 ; -6.85,-1.27 -6.35,-1.27 ; -6.85,1.27 -6.35,1.27 ; -6.35,-1.77 -6.35,-1.27 ; -6.35,-0.77 -6.35,-1.27 ; -6.35,0.77 -6.35,1.27 ; -6.35,1.77 -6.35,1.27 ; -5.85,-1.27 -6.35,-1.27 ; -5.85,1.27 -6.35,1.27 ; -4.31,-1.27 -3.81,-1.27 ; -4.31,1.27 -3.81,1.27 ; -3.81,-1.77 -3.81,-1.27 ; -3.81,-0.77 -3.81,-1.27 ; -3.81,0.77 -3.81,1.27 ; -3.81,1.77 -3.81,1.27 ; -3.31,-1.27 -3.81,-1.27 ; -3.31,1.27 -3.81,1.27 ; -1.77,-1.27 -1.27,-1.27 ; -1.77,1.27 -1.27,1.27 ; -1.27,-1.77 -1.27,-1.27 ; -1.27,-0.77 -1.27,-1.27 ; -1.27,0.77 -1.27,1.27 ; -1.27,1.77 -1.27,1.27 ; -0.77,-1.27 -1.27,-1.27 ; -0.77,1.27 -1.27,1.27 ; -0.5,0 0,0 ; 0,-0.5 0,0 ; 0,0.5 0,0 ; 0.5,0 0,0 ; 0.77,-1.27 1.27,-1.27 ; 0.77,1.27 1.27,1.27 ; 1.27,-1.77 1.27,-1.27 ; 1.27,-0.77 1.27,-1.27 ; 1.27,0.77 1.27,1.27 ; 1.27,1.77 1.27,1.27 ; 1.77,-1.27 1.27,-1.27 ; 1.77,1.27 1.27,1.27 ; 3.31,-1.27 3.81,-1.27 ; 3.31,1.27 3.81,1.27 ; 3.81,-1.77 3.81,-1.27 ; 3.81,-0.77 3.81,-1.27 ; 3.81,0.77 3.81,1.27 ; 3.81,1.77 3.81,1.27 ; 4.31,-1.27 3.81,-1.27 ; 4.31,1.27 3.81,1.27 ; 5.85,-1.27 6.35,-1.27 ; 5.85,1.27 6.35,1.27 ; 6.35,-1.77 6.35,-1.27 ; 6.35,-0.77 6.35,-1.27 ; 6.35,0.77 6.35,1.27 ; 6.35,1.77 6.35,1.27 ; 6.85,-1.27 6.35,-1.27 ; 6.85,1.27 6.35,1.27 ; 8.39,-1.27 8.89,-1.27 ; 8.39,1.27 8.89,1.27 ; 8.89,-1.77 8.89,-1.27 ; 8.89,-0.77 8.89,-1.27 ; 8.89,0.77 8.89,1.27 ; 8.89,1.77 8.89,1.27 ; 9.39,-1.27 8.89,-1.27 ; 9.39,1.27 8.89,1.27 ; 10.93,-1.27 11.43,-1.27 ; 10.93,1.27 11.43,1.27 ; 11.43,-1.77 11.43,-1.27 ; 11.43,-0.77 11.43,-1.27 ; 11.43,0.77 11.43,1.27 ; 11.43,1.77 11.43,1.27 ; 11.93,-1.27 11.43,-1.27 ; 11.93,1.27 11.43,1.27
Mechanical 14:
  drawing of 245 lines, arcs and shapes, not listed
  text "20" at 13.2,-1.85 h1
  text "1" at -13.477,0.772 h1
3D body "HARWIN_M20-7831046.stp": height 8.5, standoff -3, extent -12.9,-2.5 12.9,2.5

## HARWIN_M20-9980546 [mm] "10 Contacts - Pitch 2.54mm - Dual Row Straight Header (Lead Length 6.1mm, Insulator 2.54mm)"
height 8.64
pads (10):
  round 1.7 hole 1: 1(-5.08,-1.27) 2(-5.08,1.27) 3(-2.54,-1.27) 4(-2.54,1.27) 5(0,-1.27) 6(0,1.27) 7(2.54,-1.27) 8(2.54,1.27) 9(5.08,-1.27) 10(5.08,1.27)
Top Overlay:
  circle w0.3: c-5.108,-3.122 r0.15
  lines w0.2: -3.81,-2.04 -3.31,-2.54 -1.77,-2.54 -1.27,-2.04 ; -3.81,-2.04 -3.81,2.04 ; -3.81,-2.04 -4.31,-2.54 -5.85,-2.54 -6.35,-2.04 -6.35,2.04 -5.85,2.54 -4.31,2.54 -3.81,2.04 ; -3.81,2.04 -3.31,2.54 -1.77,2.54 -1.27,2.04 ; -1.27,-2.04 -0.77,-2.54 0.77,-2.54 1.27,-2.04 ; -1.27,-2.04 -1.27,2.04 ; -1.27,2.04 -0.77,2.54 0.77,2.54 1.27,2.04 ; 1.27,-2.04 1.77,-2.54 3.31,-2.54 3.56,-2.29 3.81,-2.04 ; 1.27,-2.04 1.27,2.04 ; 1.27,2.04 1.77,2.54 3.31,2.54 3.56,2.29 3.81,2.04 ; 3.81,-2.04 4.06,-2.29 4.31,-2.54 5.85,-2.54 6.1,-2.29 6.35,-2.04 6.35,2.04 6.1,2.29 5.85,2.54 4.31,2.54 4.06,2.29 3.81,2.04 ; 3.81,-2.04 3.81,2.04
  text "1" at -7.382,-1.818 h1.2
Mechanical 8:
  lines w0.05: -5.58,-1.27 -5.08,-1.27 ; -5.58,1.27 -5.08,1.27 ; -5.08,-1.77 -5.08,-1.27 ; -5.08,-0.77 -5.08,-1.27 ; -5.08,0.77 -5.08,1.27 ; -5.08,1.77 -5.08,1.27 ; -4.58,-1.27 -5.08,-1.27 ; -4.58,1.27 -5.08,1.27 ; -3.04,-1.27 -2.54,-1.27 ; -3.04,1.27 -2.54,1.27 ; -2.54,-1.77 -2.54,-1.27 ; -2.54,-0.77 -2.54,-1.27 ; -2.54,0.77 -2.54,1.27 ; -2.54,1.77 -2.54,1.27 ; -2.04,-1.27 -2.54,-1.27 ; -2.04,1.27 -2.54,1.27 ; -0.5,-1.27 0,-1.27 ; -0.5,0 0,0 ; -0.5,1.27 0,1.27 ; 0,-1.77 0,-1.27 ; 0,-0.77 0,-1.27 ; 0,-0.5 0,0 ; 0,0.5 0,0 ; 0,0.77 0,1.27 ; 0,1.77 0,1.27 ; 0.5,-1.27 0,-1.27 ; 0.5,0 0,0 ; 0.5,1.27 0,1.27 ; 2.04,-1.27 2.54,-1.27 ; 2.04,1.27 2.54,1.27 ; 2.54,-1.77 2.54,-1.27 ; 2.54,-0.77 2.54,-1.27 ; 2.54,0.77 2.54,1.27 ; 2.54,1.77 2.54,1.27 ; 3.04,-1.27 2.54,-1.27 ; 3.04,1.27 2.54,1.27 ; 4.58,-1.27 5.08,-1.27 ; 4.58,1.27 5.08,1.27 ; 5.08,-1.77 5.08,-1.27 ; 5.08,-0.77 5.08,-1.27 ; 5.08,0.77 5.08,1.27 ; 5.08,1.77 5.08,1.27 ; 5.58,-1.27 5.08,-1.27 ; 5.58,1.27 5.08,1.27
Mechanical 14:
  drawing of 173 lines, arcs and shapes, not listed
3D body "HARWIN_M20-9980546.stp": height 8.64, standoff -3.04, extent -6.35,-2.54 6.35,2.54

## HARWIN_M20-9990246 [mm] "2 Contacts, Pitch 2.54mm - Male Vertical Single row Pc tail"
height 8.68
pads (2):
  rect 1.7x1.7 hole 1: 1(0,0)
  round 1.7 hole 1: 2(2.54,0)
Top Overlay:
  circle w0.3: c-0.508,1.778 r0.15
  lines w0.2: -1.2,-0.84 -1.27,-0.77 -1.27,0.77 -1.2,0.84 ; -0.84,-1.2 -0.77,-1.27 0.77,-1.27 0.84,-1.2 ; -0.84,1.2 -0.77,1.27 0.77,1.27 0.84,1.2 ; 1.2,-0.84 1.27,-0.77 ; 1.2,0.84 1.27,0.77 ; 1.27,-0.77 1.77,-1.27 3.31,-1.27 3.81,-0.77 3.81,0.77 3.31,1.27 1.77,1.27 1.27,0.77 ; 1.27,-0.77 1.27,0.77
Mechanical 8:
  lines w0.1: -0.5,0 0,0 ; 0,-0.5 0,0 ; 0,0.5 0,0 ; 0.5,0 0,0 ; 2.04,0 2.54,0 ; 2.54,-0.5 2.54,0 ; 2.54,0.5 2.54,0 ; 3.04,0 2.54,0
Mechanical 14:
  circle w0.3: c-0.508,1.778 r0.15
  lines w0.1: 1.27,-0.77 1.27,0.77 ; 1.27,-0.77 0.77,-1.27 -0.77,-1.27 -1.27,-0.77 -1.27,0.77 -0.77,1.27 0.77,1.27 1.27,0.77 ; 1.27,-0.77 1.77,-1.27 3.31,-1.27 3.81,-0.77 3.81,0.77 3.31,1.27 1.77,1.27 1.27,0.77
3D body "HARWIN_M20-9990246.stp": height 8.64, standoff -3.04, extent -1.27,-1.27 3.81,1.27

## HARWIN_M22-2010205 [mm] "2 Contacts - Pitch 2mm - Single Row Through Mount Straight Header (Post Lead = 3.5mm, Tail Lead 3.4mm, Insulator 1.5mm)"
height 5
pads (2):
  rect 1.5x1.5 hole 0.8: 1(0,0)
  round 1.5 hole 0.8: 2(2,0)
Top Overlay:
  circle w0.3: c-0.508,1.778 r0.15
  lines w0.2: 1.1,-0.85 1.25,-1 1.542,-1 ; 1.1,0.85 1.25,1 1.542,1 ; 2.458,-1 2.75,-1 3,-0.75 3,-0.458 ; 2.458,1 2.75,1 3,0.75 3,0.458
Mechanical 8:
  lines w0.1: -0.5,0 0,0 ; 0,-0.5 0,0 ; 0,0.5 0,0 ; 0.5,0 0,0 ; 1.5,0 2,0 ; 2,-0.5 2,0 ; 2,0.5 2,0 ; 2.5,0 2,0
Mechanical 14:
  circle w0.3: c-0.508,1.778 r0.15
  lines w0.1: -0.097,0.097 -0.097,-0.098 ; -0.25,-0.25 -0.25,0.25 ; -0.25,-0.25 0.25,-0.25 ; -0.25,-0.25 -0.097,-0.098 ; -0.25,0.25 0.25,0.25 ; -0.25,0.25 -0.097,0.098 0.098,0.098 ; -0.097,-0.098 0.098,-0.098 ; 0.098,-0.098 0.25,-0.25 ; 0.098,-0.098 0.098,0.098 ; 0.098,0.098 0.25,0.25 ; 0.25,-0.25 0.25,0.25 ; 1.75,-0.25 1.75,0.25 ; 1.75,-0.25 2.25,-0.25 ; 1.75,-0.25 1.903,-0.098 ; 1.75,0.25 2.25,0.25 ; 1.75,0.25 1.903,0.098 ; 1.903,-0.098 1.903,0.097 ; 1.903,-0.098 2.098,-0.098 ; 1.903,0.098 2.098,0.098 ; 2.098,-0.098 2.25,-0.25 ; 2.098,-0.098 2.098,0.098 ; 2.098,0.098 2.25,0.25 ; 2.25,-0.25 2.25,0.25 ; -1,-0.75 -1,0.75 -0.75,1 0.75,1 1,0.75 1.25,1 2.75,1 3,0.75 3,-0.75 2.75,-1 1.25,-1 1,-0.75 0.75,-1 -0.75,-1 -1,-0.75
3D body "HARWIN_M22-2010205.stp": height 5, standoff -3.4, extent -1,-1 3,1